# Altium footprint library PN-13104.PcbLib: 1 footprints
Each footprint in its own frame and in the unit in brackets; x right, y up, seen from the top. Pads: shape width x height; smd on the part's side, far side on the other; paste and mask are expansions set on the pad; w line width, h text height; cw(c..) or ccw(c..) is an arc to the next point about the centre after c.
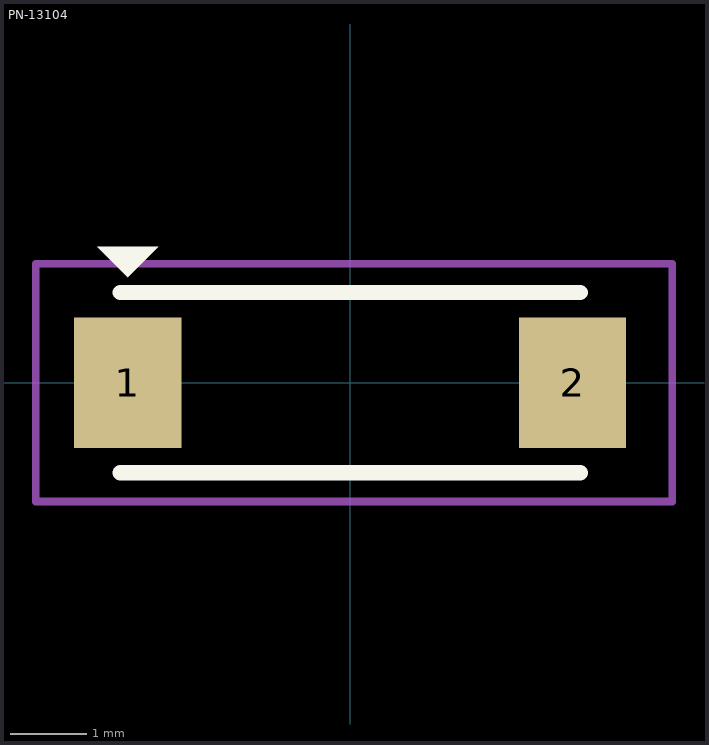
[diagram p0: the footprint, top view; thin cyan lines are the x and y axes]

## PN-13104 [mm]
height 2.21
pads (2):
  rect 1.4x1.7 smd paste-0.7 mask+0.125: 1(-2.9,0) 2(2.9,0)
Top Overlay:
  region: -3.3,1.775 -2.5,1.775 -2.9,1.375
  lines w0.2: -3,-1.175 3,-1.175 ; -3,1.175 3,1.175
Top Paste:
  region: 2.95,0.6 2.35,0.6 2.35,-0.6 2.95,-0.6
  rectangle: -2.95,-0.6 -2.35,0.6
Top Courtyard:
  lines w0.1: -4.1,-1.55 -4.1,1.55 4.2,1.55 4.2,-1.55 -3.175,-1.55 -4.1,-1.55
3D body: height 2.21, standoff 0, extent -3,-1.05 3,1.05